# EAGLE library part ADS8210 (library ad)
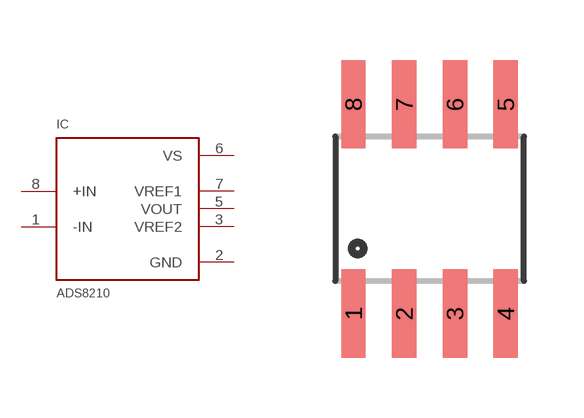
[diagram p0: symbol with the pads of SO08; footprint SO08]

Designator prefix IC

## ADS8210  [SO08]
1  -IN
2  GND
3  VREF2
5  VOUT
6  VS
7  VREF1
8  +IN

## Footprint SO08 (pad centres in mm)
Small Outline Package Fits JEDEC packages (narrow SOIC-8)
smd 0.61 x 2.21: 1 -1.905,-2.616; 2 -0.635,-2.616; 3 0.635,-2.616; 4 1.905,-2.616; 5 1.905,2.616; 6 0.635,2.616; 7 -0.635,2.616; 8 -1.905,2.616